# Altium schematic symbol library SINGLE_2IN_NAND_V1.SchLib: 1 symbol
Pins are listed as number, name and electrical type; pins without a type are passive.

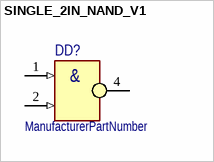
[diagram p0: symbol SINGLE_2IN_NAND_V1]

## SINGLE_2IN_NAND_V1
designator DD?  (value not drawn)
ManufacturerPartNumber: ManufacturerPartNumber
pins: 1 (in), 2 (in), 3 (power) hidden to GND, 4 (out), 5 (power) hidden to VCC
text: &